# Altium schematic symbol library SS54B.SchLib: 1 symbol
Pins are listed as number, name and electrical type; pins without a type are passive.

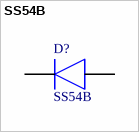
[diagram p0: symbol SS54B]

## SS54B
designator D?
HY Electronic Corp SS54B, SMT Rectifier Schottky Diode, 40V 5A, 2-Pin SMB; Geometry.Height: 2.44mm; Manufacturer_Name: HY Electronic Corp; Manufacturer_Part_Number: SS54B; RS Part Number: 1711461; RS Price/Stock: http://uk.rs-online.com/web/p/products/1711461; Arrow Part Number: SS54B; Arrow Price/Stock: http://uk.rs-online.com/web/p/products/1711461; Datasheet Link: http://docs-europe.electrocomponents.com/webdocs/14bb/0900766b814bbf92.pdf
footprint DIOM5336X244N
pins: 1 K, 2 A